# EAGLE library part M34583(32PIN) (library renesas_mcu)
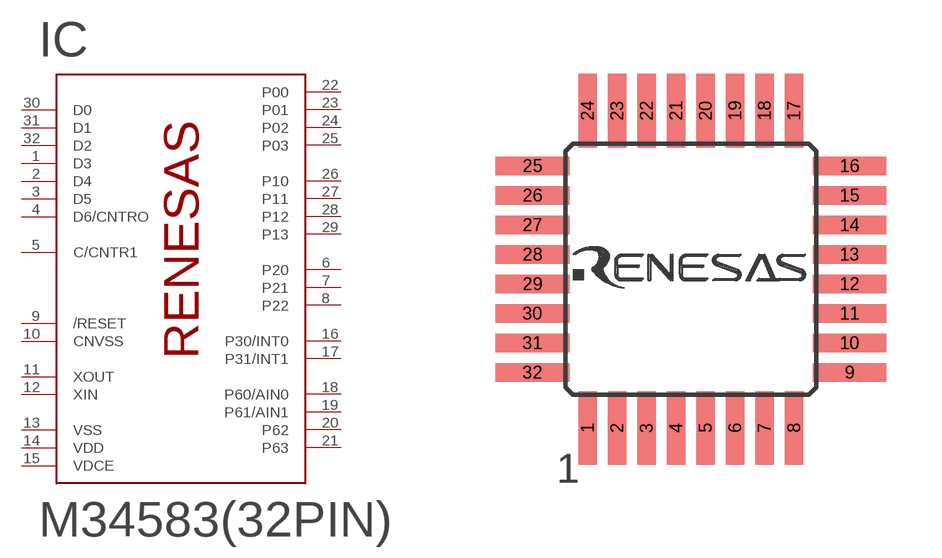
[diagram p59: symbol with the pads of 32P6U-A; footprint 32P6U-A]

Designator prefix IC

## M34583(32PIN)  [32P6U-A]
1  D3  out
2  D4  out
3  D5  out
4  D6/CNTRO  out
5  C/CNTR1  out
6  P20  in
7  P21  in
8  P22  in
9  /RESET
10  CNVSS
11  XOUT  out
12  XIN  in
13  VSS  in
14  VDD  pwr
15  VDCE  in
16  P30/INT0
17  P31/INT1
18  P60/AIN0
19  P61/AIN1
20  P62  in
21  P63  in
22  P00  in
23  P01
24  P02
25  P03
26  P10
27  P11
28  P12
29  P13
30  D0  out
31  D1  out
32  D2  out

## Footprint 32P6U-A (pad centres in mm)
smd 0.5 x 2: 1 -2.8,-4.3; 2 -2,-4.3; 3 -1.2,-4.3; 4 -0.4,-4.3; 5 0.4,-4.3; 6 1.2,-4.3; 7 2,-4.3; 8 2.8,-4.3; 17 2.8,4.3; 18 2,4.3; 19 1.2,4.3; 20 0.4,4.3; 21 -0.4,4.3; 22 -1.2,4.3; 23 -2,4.3; 24 -2.8,4.3
smd 2 x 0.5: 9 4.3,-2.8; 10 4.3,-2; 11 4.3,-1.2; 12 4.3,-0.4; 13 4.3,0.4; 14 4.3,1.2; 15 4.3,2; 16 4.3,2.8; 25 -4.3,2.8; 26 -4.3,2; 27 -4.3,1.2; 28 -4.3,0.4; 29 -4.3,-0.4; 30 -4.3,-1.2; 31 -4.3,-2; 32 -4.3,-2.8